# Altium footprint library BAT.PcbLib: 1 footprints
Each footprint in its own frame and in the unit in brackets; x right, y up, seen from the top. Pads: shape width x height; smd on the part's side, far side on the other; paste and mask are expansions set on the pad; w line width, h text height; cw(c..) or ccw(c..) is an arc to the next point about the centre after c.
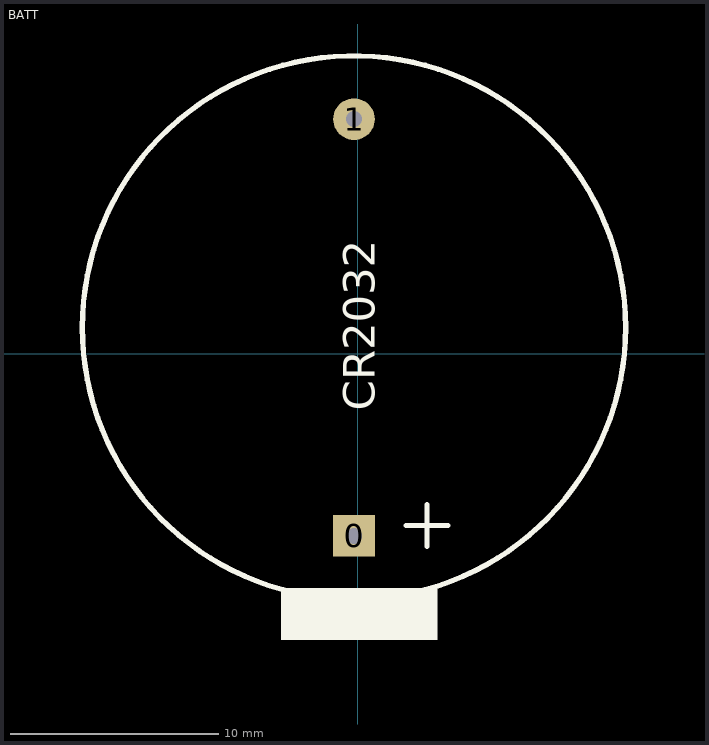
[diagram p0: the footprint, top view; thin cyan lines are the x and y axes]

## BATT [mm]
pads (2):
  rect 2x2 hole 0.762: 0(-0.178,-8.735)
  round 2 hole 0.762: 1(-0.178,11.265)
Top Overlay:
  circle w0.254: c-0.178,1.265 r13.038
  region: 3.822,-13.735 3.822,-11.235 -3.678,-11.235 -3.678,-13.735
  lines w0.254: 2.322,-8.235 4.322,-8.235 ; 3.322,-9.235 3.322,-7.235
  text "CR2032" at 0.822,-2.735 h1.52